# Altium footprint library SSR.PcbLib: 24 footprints (part 1 of 2)
Each footprint in its own frame and in the unit in brackets; x right, y up, seen from the top. Pads: shape width x height; smd on the part's side, far side on the other; paste and mask are expansions set on the pad; w line width, h text height; cw(c..) or ccw(c..) is an arc to the next point about the centre after c.
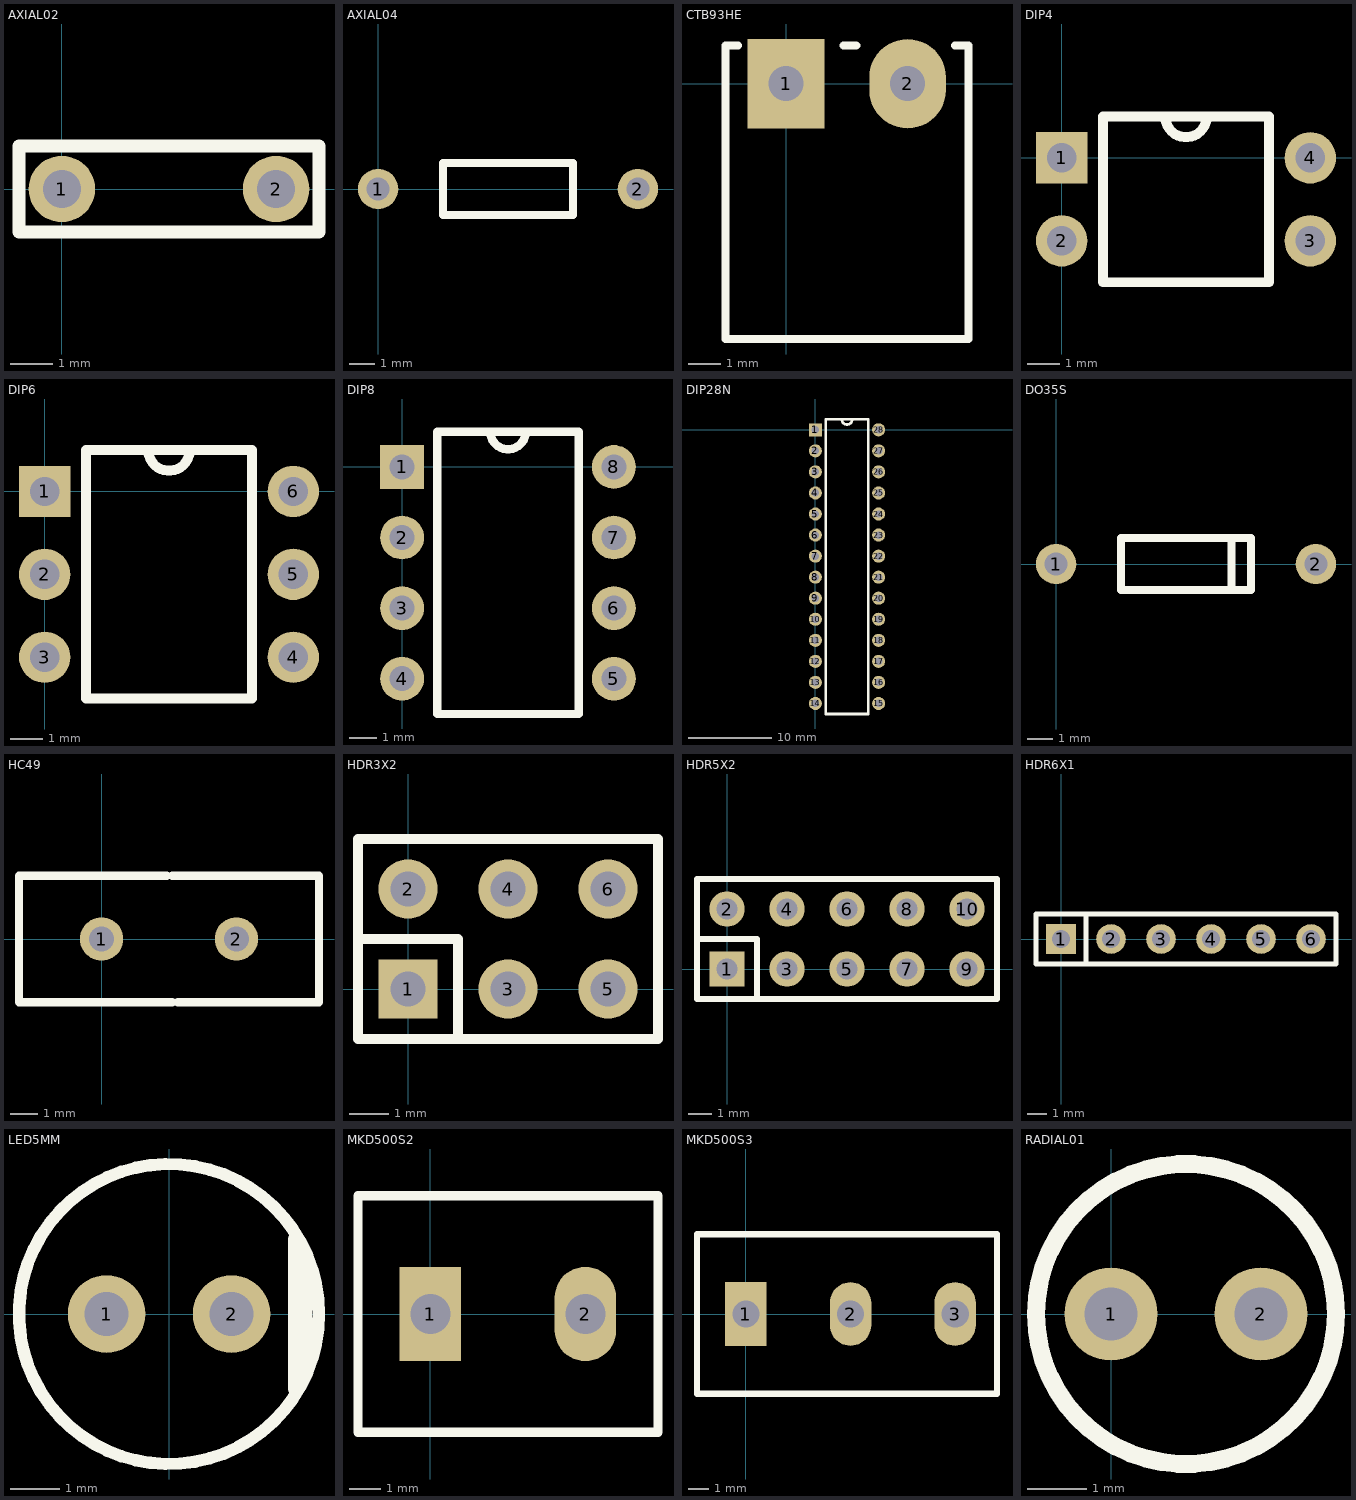
[diagram p0: the footprints below, top view; thin cyan lines are the x and y axes]

## AXIAL02 [mil]
pads (2):
  round 62 hole 35.43: 1(0,0) 2(200,0)
Top Overlay:
  lines w12: -40,-40 -40,40 140,40 240,40 240,-40 140,-40 -40,-40

## AXIAL04 [mil]
pads (2):
  round 62 hole 35.43: 1(0,0) 2(400,0)
Top Overlay:
  lines w12: 100,-40 300,-40 300,38.74 ; 100,-38.74 100,40 300,40

## CTB93HE [mm] "CAMDEN SCREW TERMINAL"
height 7.25
pads (2):
  rect 2.4x2.8 hole 1.1: 1(0,0)
  oval 2.4x2.8 hole 1.1: 2(3.81,0)
Top Overlay:
  lines w0.254: -1.5,1.2 -1.9,1.2 -1.9,-8 5.72,-8 5.72,1.2 ; 1.8,1.2 2.2,1.2 ; 5.3,1.2 5.7,1.2

## DIP4 [mil]
pads (4):
  rect 62x62 hole 35.43: 1(0,0)
  round 62 hole 35.43: 2(0,-100) 3(300,-100) 4(300,0)
Top Overlay:
  lines w12: 125,50 ccw(c150,50) 175,50 ; 50,-150 50,50 250,50 250,-150 50,-150

## DIP6 [mil]
pads (6):
  rect 62x62 hole 35.43: 1(0,0)
  round 62 hole 35.43: 2(0,-100) 3(0,-200) 4(300,-200) 5(300,-100) 6(300,0)
Top Overlay:
  lines w12: 125,50 ccw(c150,50) 175,50 ; 50,-250 250,-250 250,50 50,50 50,-250

## DIP8 [mil]
pads (8):
  rect 62x62 hole 35.43: 1(0,0)
  round 62 hole 35.43: 2(0,-100) 3(0,-200) 4(0,-300) 5(300,-300) 6(300,-200) 7(300,-100) 8(300,0)
Top Overlay:
  lines w12: 125,50 ccw(c150,50) 175,50 ; 50,-350 50,50 250,50 250,-350 50,-350

## DIP28N [mil]
pads (28):
  rect 62x62 hole 35.43: 1(0,0)
  round 62 hole 35.43: 2(0,-100) 3(0,-200) 4(0,-300) 5(0,-400) 6(0,-500) 7(0,-600) 8(0,-700) 9(0,-800) 10(0,-900) 11(0,-1000) 12(0,-1100) 13(0,-1200) 14(0,-1300) 15(300,-1300) 16(300,-1200) 17(300,-1100) 18(300,-1000) 19(300,-900) 20(300,-800) 21(300,-700) 22(300,-600) 23(300,-500) 24(300,-400) 25(300,-300) 26(300,-200) 27(300,-100) 28(300,0)
Top Overlay:
  lines w12: 125,50 ccw(c150,50) 175,50 ; 50,-1350 250,-1350 250,50 50,50 50,-1350

## DO35S [mil]
pads (2):
  round 62 hole 35.43: 1(0,0) 2(400,0)
Top Overlay:
  lines w12: 100,-40 300,-40 300,38.74 ; 100,-38.74 100,40 300,40
  lines w12.04: 270,-40 270,38.74

## HC49 [mil]
pads (2):
  round 62 hole 35.43: 1(0,0) 2(192.91,0)
Top Overlay:
  lines w12: 93.39,90.55 -118.11,90.55 -118.11,-90.55 101.26,-90.55 ; 101.26,90.55 311.02,90.55 311.02,-90.55 109.13,-90.55

## HDR3X2 [mm] "Header 3 x 2"
height 10
pads (6):
  rect 1.5x1.5 hole 0.9: 1(0,0)
  round 1.5 hole 0.9: 2(0,2.54) 3(2.54,0) 4(2.54,2.54) 5(5.08,0) 6(5.08,2.54)
Top Overlay:
  lines w0.254: -1.27,1.27 1.27,1.27 1.27,-1.27 ; -1.27,-1.27 -1.27,3.81 0.635,3.81 6.35,3.81 6.35,-1.27 0.635,-1.27 -1.27,-1.27

## HDR5X2 [mm] "Header 5 x 2"
height 10
pads (10):
  rect 1.5x1.5 hole 0.9: 1(0,0)
  round 1.5 hole 0.9: 2(0,2.54) 3(2.54,0) 4(2.54,2.54) 5(5.08,0) 6(5.08,2.54) 7(7.62,0) 8(7.62,2.54) 9(10.16,0) 10(10.16,2.54)
Top Overlay:
  lines w0.254: -1.27,1.27 1.27,1.27 1.27,-1.27 ; -1.27,-1.27 -1.27,3.81 0.635,3.81 11.43,3.81 11.43,-1.27 0.635,-1.27 -1.27,-1.27

## HDR6X1 [mm] "Header 6 x 1"
height 10
pads (6):
  rect 1.5x1.5 hole 0.9: 1(0,0)
  round 1.5 hole 0.9: 2(2.54,0) 3(5.08,0) 4(7.62,0) 5(10.16,0) 6(12.7,0)
Top Overlay:
  lines w0.254: 1.27,-1.27 1.27,1.27 -1.27,1.27 ; -1.27,1.27 3.175,1.27 13.97,1.27 13.97,-1.27 0.635,-1.27 -1.27,-1.27 -1.27,1.27

## LED5MM [mil]
pads (2):
  round 62 hole 35.43: 1(-50,0) 2(50,0)
Top Overlay:
  circle w9.84: c0,0 r120
  lines w9.84: 100,-60 100,60 ; 107.48,-49.21 107.48,49.21 ; 110,-40 110,40

## MKD500S2 [mil]
pads (2):
  rect 78x120 hole 51.18: 1(0,0)
  oval 78x120 hole 51.18: 2(196.85,0)
Top Overlay:
  lines w12: -92,-150 289,-150 289,150 -92,150 -92,-150

## MKD500S3 [mil]
pads (3):
  rect 78x120 hole 51.18: 1(0,0)
  oval 78x120 hole 51.18: 2(196.85,0) 3(393.7,0)
Top Overlay:
  lines w12: -92,-150 472.44,-150 472.44,150 -92,150 -92,-150

## RADIAL01 [mil]
pads (2):
  round 62 hole 35.43: 1(0,0) 2(100,0)
Top Overlay:
  circle w12: c50,0 r100